# Altium schematic symbol library AMA4B_adapter_board.SCHLIB: 114 symbols (part 3 of 3)
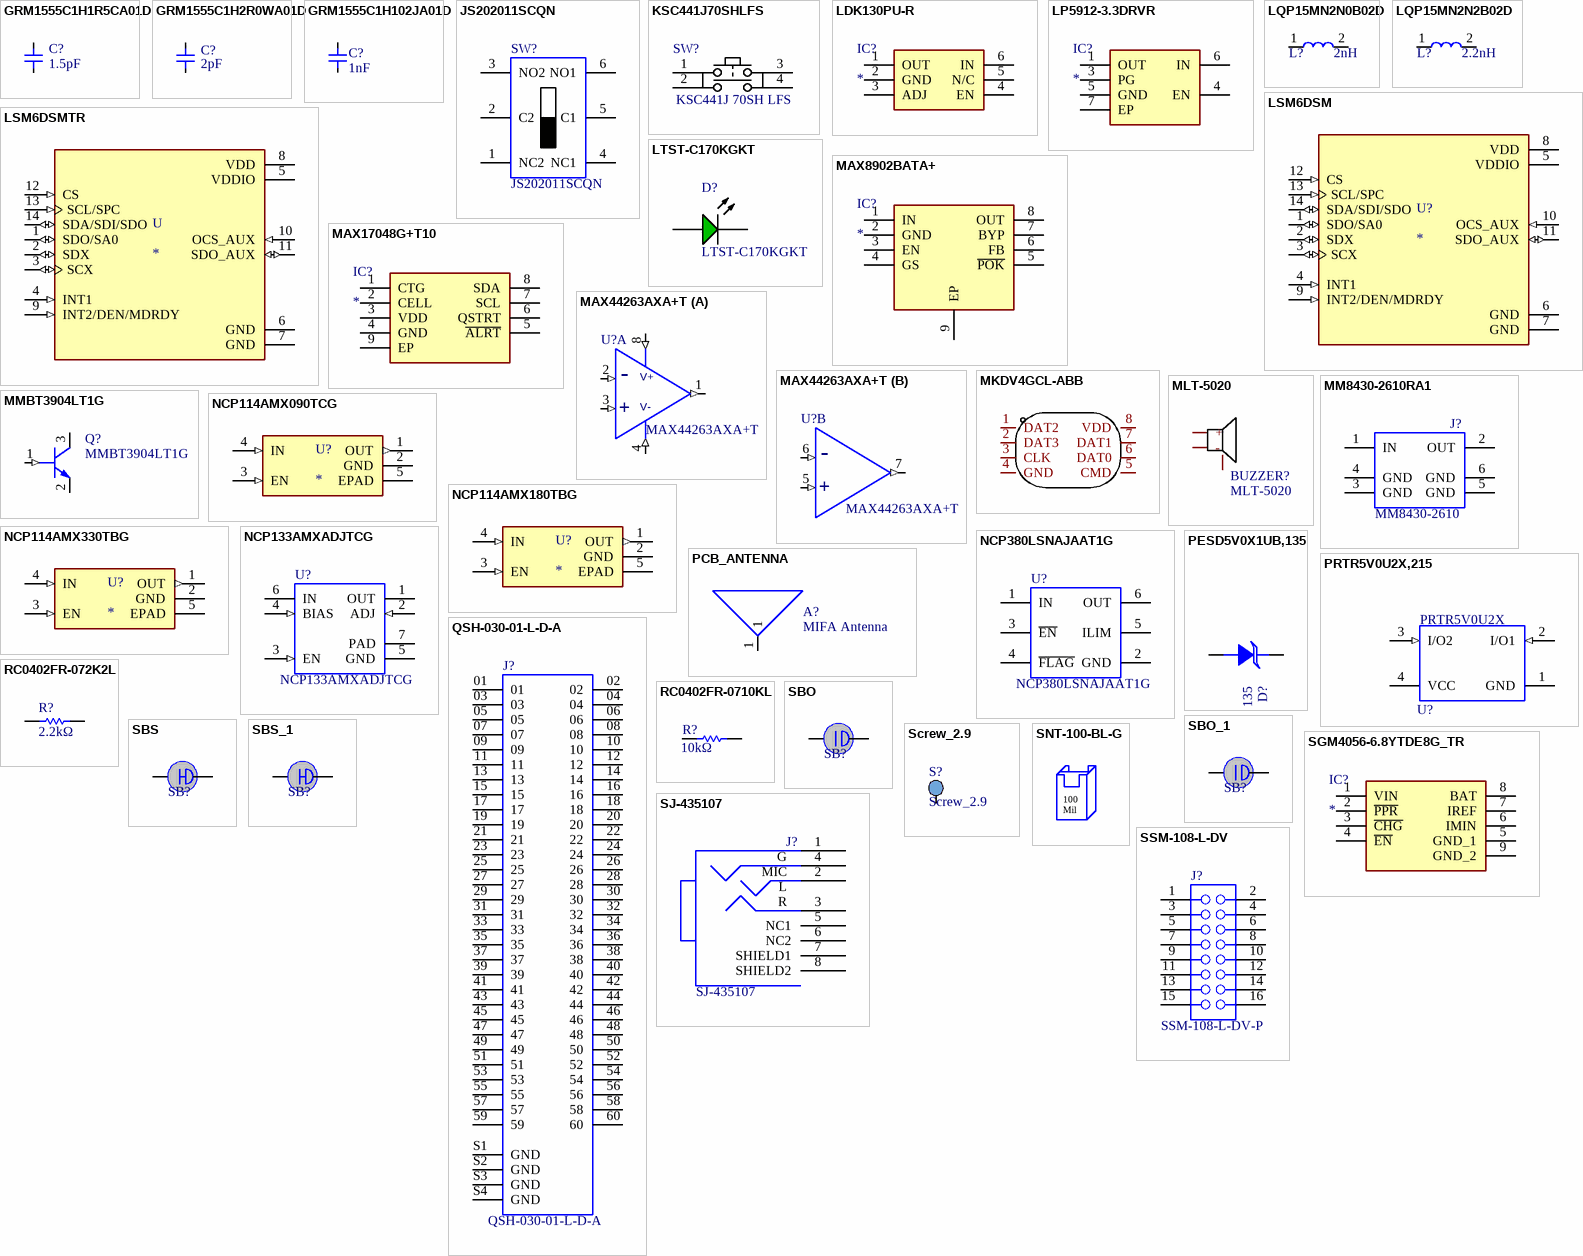
[diagram p5: symbols GRM1555C1H1R5CA01D to SSM-108-L-DV]

## MM8430-2610RA1
designator J?, comment MM8430-2610
None; Manufacturer: Murata; AMBIQ PN: MM8430-2610RA1; Connector Type: Socket; Impedance: 50R; Max Frequency: 6GHz; Polarity: Standard; Supplier 1: Arrow Electronics; Supplier Part Number 1: MM8430-2610RA1; Manufacturer Part Number: MM8430-2610RA1; RoHS: Yes; Category: RF / Coaxial Connectors; Stock 1: 2000; Pricing 1: 1000=0.24630, 2000=0.22530, 5000=0.21890, 10000=0.21150 (USD); Mount: Surface Mount; Case/Package: SMD/SMT; Contact Material: Copper Alloy; Contact Plating: Gold; Min Operating Temperature: -40°C; Max Operating Temperature: 85°C; Packaging: Tape and Reel; Orientation: Straight; Termination: Solder; Length: 3mm; ComponentLink1URL: https://datasheet.ciiva.com/642/o33e-642736.pdf?src-supplier=Digi-Key; ComponentLink1Description: https://datasheet.ciiva.com/642/o33e-642736.pdf?src-supplier=Digi-Key; Housing Color: Silver; Series: 8430; Depth: 3mm; Radiation Hardening: No; Package Quantity: 1; Lead Free: Lead Free; Insulation Material: Plastic; Fastening Type: Pull
footprint MM8430-2610
pins: 1 IN, 2 OUT, 3 GND (power), 4 GND (power), 5 GND (power), 6 GND (power)

## MMBT3904LT1G
designator Q?
None; Manufacturer: ON Semiconductor; Element Configuration: Single; Max Power Dissipation: 300mW; Polarity: NPN; Voltage Rating (DC): 40V; Current Rating: 200mA; Number of Elements: 1; Frequency: 300MHz; hFE Min: 100; Collector Base Voltage (VCBO): 60V; Emitter Base Voltage (VEBO): 6V; Collector Emitter Saturation Voltage: 300mV; Type: General Purpose; AMBIQ PN: MMBT3904LT1G; Supplier 1: RSComponents; Supplier Part Number 1: 5450343; Manufacturer Part Number: MMBT3904LT1G; RoHS: Yes; Category: BJTs; Stock 1: 150; Pricing 1: 50=0.12200, 100=0.09200, 250=0.09100, 500=0.09000, 1250=0.07100 (GBP); Case/Package: SOT-23-3; Number of Pins: 3; Contact Plating: Tin,Matte; Min Operating Temperature: -55°C; Max Operating Temperature: 150°C; Packaging: Tape and Reel; Package Quantity: 1; Series: -; Length: 2.9mm; Width: 1.3mm; Height: 0.94mm; Radiation Hardening: No; RoHS Compliant: Yes; REACH SVHC: No SVHC; Lead Free: Lead Free; ComponentLink1URL: https://datasheet.ciiva.com/4723/mmbt3904lt1-d-113169-4723050.pdf; ComponentLink1Description: https://datasheet.ciiva.com/4723/mmbt3904lt1-d-113169-4723050.pdf; Collector Emitter Voltage (VCEO): 40V; Max Collector Current: 200mA; Transition Frequency: 300MHz; Collector Emitter Breakdown Voltage: 40V; Max Breakdown Voltage: 40V; Power Dissipation: 300mW; Gain Bandwidth Product: 300MHz; Max Frequency: 300MHz; Collector-emitter Voltage-Max: 300mV
footprint SOT23-3N
pins: 1 BASE (in), 2 EMITTER, 3 COLLECTOR

## NCP114AMX090TCG
designator U?
Linear Voltage Regulator IC Positive Fixed 1 Output 300mA 4-UDFN _1.0x1.0_; MP: NCP114AMX330TBG; MF: ON Semiconductor; Availability: Unavailable; Package: UDFN-4 ON Semiconductor; Value: *; Price: None; SnapEDA_Link: https://www.snapeda.com/parts/NCP114AMX330TBG/ON%20Semiconductor/view-part/711351/?ref=snap
footprint REG_NCP114AMX330TBG
pins: 1 OUT (out), 2 GND (power), 3 EN (in), 4 IN (in), 5 EPAD

## NCP114AMX180TBG
designator U?
Linear Voltage Regulator IC Positive Fixed 1 Output 300mA 4-UDFN _1.0x1.0_; MP: NCP114AMX330TBG; MF: ON Semiconductor; Availability: Unavailable; Package: UDFN-4 ON Semiconductor; Value: *; Price: None; SnapEDA_Link: https://www.snapeda.com/parts/NCP114AMX330TBG/ON%20Semiconductor/view-part/711351/?ref=snap
footprint REG_NCP114AMX330TBG
pins: 1 OUT (out), 2 GND (power), 3 EN (in), 4 IN (in), 5 EPAD

## NCP114AMX330TBG
designator U?
Linear Voltage Regulator IC Positive Fixed 1 Output 300mA 4-UDFN _1.0x1.0_; MP: NCP114AMX330TBG; MF: ON Semiconductor; Availability: Unavailable; Package: UDFN-4 ON Semiconductor; Value: *; Price: None; SnapEDA_Link: https://www.snapeda.com/parts/NCP114AMX330TBG/ON%20Semiconductor/view-part/711351/?ref=snap
footprint REG_NCP114AMX330TBG
pins: 1 OUT (out), 2 GND (power), 3 EN (in), 4 IN (in), 5 EPAD

## NCP133AMXADJTCG
designator U?
None; Manufacturer: ON Semiconductor; Output Type: Adjustable; Number of Outputs: 1; Max Output Current: 500mA; Output Voltage: 3.6V; Max Input Voltage: 5.5V; Min Input Voltage: 800mV; Polarity: Positive; Accuracy: 0.5%; Dropout Voltage: 140mV; Min Current Limit: 550mA; Power Supply Rejection Ratio (PSRR): 70dB; AMBIQ PN: NCP133AMXADJTCG; Manufacturer Part Number: NCP133AMXADJTCG; Supplier 1: Arrow Electronics; Supplier Part Number 1: NCP133AMXADJTCG; RoHS: Yes; Category: Voltage Regulators - Linear; Stock 1: 50943; Pricing 1: 1=0.67860, 10=0.59180, 100=0.45310, 250=0.42120, 500=0.35830, 1000=0.28640, 3000=0.26440 (USD); Number of Pins: 6; Contact Plating: Tin,Matte; Min Operating Temperature: -40°C; Max Operating Temperature: 85°C; Package Quantity: 3000; Packaging: Tape and Reel; REACH SVHC: No SVHC; Lead Free: Lead Free; RoHS Compliant: Yes; ComponentLink1URL: https://datasheet.ciiva.com/46403/1863238-46403671.pdf?src-supplier=Element14; ComponentLink1Description: https://datasheet.ciiva.com/46403/1863238-46403671.pdf?src-supplier=Element14; Mount: Surface Mount; Length: 1.2mm; Width: 1.2mm; Height: 0.4mm; Output Current: 500mA; Min Output Voltage: 800mV; Reference Voltage: 800mV; Max Output Voltage: 3.6V; Number of Regulators: 1
footprint SON40P120X45_HS-7N
pins: 1 OUT (power) "Regulated Output Voltage pin", 2 ADJ (in) "Adjustable Regulator Feedback Input. Connect to output voltage resistor divider central node. If fixed variant, True No Connect, and not internally connected.", 3 EN (in) "Enable pin. Driving this pin high enables the regulator. Driving this pin low puts the regulator into shutdown mode.", 4 BIAS (in) "Bias voltage supply for internal control circuits. This pin is monitored by internal UVLO circuit.", 5 GND "Ground", 6 IN (power) "Input Voltage Supply pin", 7 PAD "Should be soldered to the ground plane for increased thermal performance."

## NCP380LSNAJAAT1G
designator U?
None; Manufacturer: ON Semiconductor; Interface: On/Off; Number of Outputs: 1; Max Output Current: 1A; Output Configuration: High Side; Max Power Dissipation: 350mW; Current Rating: 2.1A; On-State Resistance: 70mR; On-state Resistance-Max: 110MR; Operating Supply Voltage: 5.5V; Min Input Voltage: 2.5V; Number of Inputs: 2; Turn-On Delay Time: 4ms; Turn-Off Delay Time: 3ms; AMBIQ PN: NCP380LSNAJAAT1G; Manufacturer Part Number: NCP380LSNAJAAT1G; Supplier 1: Newark; Supplier Part Number 1: 42Y0754; RoHS: Yes; Category: USB Interface ICs; Stock 1: 1700; Pricing 1: 1=0.83000, 10=0.73100, 25=0.68600, 50=0.62300, 100=0.56000, 250=0.52000, 500=0.44300, 1000=0.35400 (USD); Number of Pins: 6; Min Operating Temperature: -40°C; Max Operating Temperature: 85°C; Package Quantity: 1; Packaging: Tape and Reel; Series: -; Mount: Surface Mount; Length: 3mm; Width: 1.5mm; Height: 1mm; Number of Switches: 1; Rated Current-Max: 2.1A; Max Input Voltage: 5.5V; Case/Package: TSOP; Radiation Hardening: No
footprint TSOP6_1P70X3P10_ONS
pins: 1 IN (power), 2 GND (power), 3 ~{EN}, 4 ~{FLAG} (oc), 5 ILIM, 6 OUT (power)

## PCB_ANTENNA
designator A?, comment MIFA Antenna  (no BOM)
None; AMBIQ PN: PCB_ANTENNA
footprint PCB_MIFA_ANTENNA
footprint AP3EVB_MIFA_ANTENNA
pins: 1

## PESD5V0X1UB,135
designator D?
None; Manufacturer: Nexperia; AMBIQ PN: PESD5V0X1UB,135; Supplier 1: RSComponents; Supplier Part Number 1: 1704867; Manufacturer Part Number: PESD5V0X1UB,135; RoHS: Yes; Category: ESD and Circuit Protection ICs; Stock 1: 1; Pricing 1: 10000=0.12700 (USD); RoHS Compliant: Yes; ComponentLink1URL: https://www.mouser.com/ds/2/302/PESD5V0X1UB-1151612.pdf?src-supplier=Mouser; ComponentLink1Description: https://www.mouser.com/ds/2/302/PESD5V0X1UB-1151612.pdf?src-supplier=Mouser
footprint SC79
pins: 1 C, 2 A

## PRTR5V0U2X,215
designator U?, comment PRTR5V0U2X
None; Manufacturer: Nexperia; AMBIQ PN: PRTR5V0U2X,215; Manufacturer Part Number: PRTR5V0U2X,215; Supplier 1: Arrow Electronics; Supplier Part Number 1: PRTR5V0U2X,215; RoHS: Yes; Category: ESD and Circuit Protection ICs; Stock 1: 234000; Pricing 1: 3000=0.18050, 6000=0.16890, 15000=0.15880 (USD); RoHS Compliant: Yes; ComponentLink1URL: http://www.farnell.com/datasheets/109718.pdf?src-supplier=Farnell; ComponentLink1Description: http://www.farnell.com/datasheets/109718.pdf?src-supplier=Farnell; ComponentLink2URL: https://assets.nexperia.com/documents/data-sheet/PRTR5V0U2X.pdf?src-supplier=Digi-Key; ComponentLink2Description: https://assets.nexperia.com/documents/data-sheet/PRTR5V0U2X.pdf?src-supplier=Digi-Key
footprint SOT143L
pins: 1 GND (power), 2 I/O1 (in), 3 I/O2 (in), 4 VCC

## QSH-030-01-L-D-A
designator J?
None; Manufacturer: Samtec; Connector Type: Receptacle; Number of Contacts: 60; Current Rating: 1A; Pitch: 0.5mm; Row Spacing: 3.81mm; Max Voltage Rating (AC): 125V; Mated Stacking Heights: 25mm; AMBIQ PN: QSH-030-01-L-D-A; Supplier 1: Arrow Electronics; Supplier Part Number 1: QSH-030-01-L-D-A; Manufacturer Part Number: QSH-030-01-L-D-A; RoHS: Yes; Category: Board to Board Connectors; Stock 1: 434; Pricing 1: 96=10.29850 (USD); Mount: Surface Mount; Contact Material: Bronze; Contact Plating: Gold; Housing Material: Polymer; Min Operating Temperature: -55°C; Max Operating Temperature: 125°C; Packaging: Tray; Gender: Receptacle; Orientation: Straight; Termination: Solder; Length: 21.27mm; REACH SVHC: No SVHC; RoHS Compliant: Yes; ComponentLink1URL: https://datasheet.ciiva.com/25618/0900766b8115a597-25618083.pdf?src-supplier=RSComponents; ComponentLink1Description: https://datasheet.ciiva.com/25618/0900766b8115a597-25618083.pdf?src-supplier=RSComponents; Housing Color: Black; Number of Rows: 2; Number of Positions: 60; Series: Q Strip® QSH; Depth: 7.49mm; Radiation Hardening: No; Lead Free: Lead Free; Voltage Rating: 125V
footprint SAMTEC_QSH-030-01-X-D-A
pins: 01, 02, 03, 04, 05, 06, 07, 08, 09, 10, 11, 12, 13, 14, 15, 16, 17, 18, 19, 20, 21, 22, 23, 24, 25, 26, 27, 28, 29, 30, 31, 32, 33, 34, 35, 36, 37, 38, 39, 40, 41, 42, 43, 44, 45, 46, 47, 48, 49, 50, 51, 52, 53, 54, 55, 56, 57, 58, 59, 60, S1 GND (power), S2 GND (power), S3 GND (power), S4 GND (power)

## RC0402FR-072K2L
designator R?, comment 2.2kΩ
Res Thick Film 1.0 x 0.5 mm 2.2K Ohm 1% 0.063W(1/16W) 100ppm/ C Molded SMD Paper T/R; Manufacturer: Yageo; AMBIQ PN: RC0402FR-072K2L; Resistance: 2.2kR; Power Rating: 63mW; Voltage Rating: 50V; Temperature Coefficient: 100ppm/°C; Supplier 1: Arrow Electronics; Supplier Part Number 1: RC0402FR-072K2L; Manufacturer Part Number: RC0402FR-072K2L; RoHS: Yes; Category: Chip SMD Resistors; Stock 1: 3540000; Pricing 1: 10000=0.00090 (USD); Case/Package: 0402; Weight: 2.3E-05oz; Case Code (Metric): 1005; Case Code (Imperial): 0402; Size Code: 0402; Min Operating Temperature: -55°C; Max Operating Temperature: 155°C; Packaging: Tape and Reel; Resistor Type: Thick Film; Number of Terminations: 2; Termination: SMD/SMT; Max Power Dissipation: 63mW; Features: Moisture Resistant; Series: RC; Technology: THICK FILM; Construction: Rectangular; Length: 1mm; Width: 0.5mm; Height: 0.35mm; Depth: 0.5mm; REACH SVHC: Unknown; Military Standard: Not; Lead Free: Lead Free; RoHS Compliant: Yes; ComponentLink1URL: https://datasheet.ciiva.com/11808/0900766b80c66297-11808786.pdf?src-supplier=RSComponents; ComponentLink1Description: https://datasheet.ciiva.com/11808/0900766b80c66297-11808786.pdf?src-supplier=RSComponents; ComponentLink2URL: https://datasheet.ciiva.com/7983/1018594-7983515.pdf?src-supplier=Element14; ComponentLink2Description: https://datasheet.ciiva.com/7983/1018594-7983515.pdf?src-supplier=Element14; ComponentLink3URL: https://datasheet.ciiva.com/46383/1018594-46383563.pdf?src-supplier=Element14; Tolerance: 1%; Resistance Tolerance: 1%
footprint IPC_A
footprint IPC_B
footprint IPC_C
footprint MFG
pins: 1, 2
1 alternate drawing of the same symbol

## RC0402FR-0710KL
designator R?, comment 10kΩ
Surface Mount Thick Film Resistor, Rc Series, 10 Kohm, 62.5 Mw, - 1%, 50 V, 0402 [1005 Metric]; Manufacturer: Yageo; AMBIQ PN: RC0402FR-0710KL; Resistance: 10kR; Power Rating: 62.5mW; Voltage Rating: 50V; Max Power Dissipation: 63mW; Temperature Coefficient: 100ppm/°C; Supplier 1: Arrow Electronics; Supplier Part Number 1: RC0402FR-0710KL; Manufacturer Part Number: RC0402FR-0710KL; RoHS: Yes; Category: Chip SMD Resistors; Stock 1: 7776428; Pricing 1: 10000=0.00210 (USD); Case/Package: 0402; Case Code (Metric): 1005; Case Code (Imperial): 0402; Min Operating Temperature: -55°C; Max Operating Temperature: 155°C; Packaging: Tape and Reel; Resistor Type: Thick Film; Number of Terminations: 2; Termination: SMD/SMT; Voltage Rating (DC): 50V; Features: Moisture Resistant; Series: RC; Construction: Rectangular; Length: 1mm; Width: 0.5mm; Height: 0.32mm; Depth: 0.5mm; REACH SVHC: No SVHC; Military Standard: Not; Lead Free: Lead Free; RoHS Compliant: Yes; ComponentLink1URL: https://datasheet.ciiva.com/7660/38568-7660787.pdf?src-supplier=Element14; ComponentLink1Description: https://datasheet.ciiva.com/7660/38568-7660787.pdf?src-supplier=Element14; ComponentLink2URL: https://datasheet.ciiva.com/7849/1686128-7849814.pdf?src-supplier=Element14; ComponentLink2Description: https://datasheet.ciiva.com/7849/1686128-7849814.pdf?src-supplier=Element14; ComponentLink3URL: https://datasheet.ciiva.com/7983/1018594-7983486.pdf?src-supplier=Element14; Tolerance: 1%; Number of Pins: 2; Resistance Tolerance: 1%; Working Voltage: 50V; Lead Pitch: 0.2mm
footprint IPC_A
footprint IPC_B
footprint IPC_C
footprint MFG
pins: 1, 2
1 alternate drawing of the same symbol

## SBO
designator SB?  (value not drawn)  (no BOM)
None; AMBIQ PN: SBO
footprint SB39X18
pins: 1, 2

## SBO_1
designator SB?, comment Solderbridge  (value not drawn)  (no BOM)
None; AMBIQ PN: SBO
footprint SB39X18
pins: 1, 2

## SBS
designator SB?, comment Solder short  (value not drawn)  (net tie, no BOM)
None; AMBIQ PN: SBS
footprint SB39X18_SHORTED
pins: 1, 2

## SBS_1
designator SB?, comment SBS  (value not drawn)  (net tie, no BOM)
None; AMBIQ PN: SBS
footprint SB39X18_SHORTED
pins: 1, 2

## Screw_2.9
designator S?
footprint Screw_2.9
footprint HOLE-3.2MM_M
footprint HOLE-2.9MM
pins: 1

## SGM4056-6.8YTDE8G_TR
designator IC?
Integrated Circuit; Manufacturer_Name: SGMICRO; Manufacturer_Part_Number: SGM4056-10.5YTDE8G/TR; Datasheet Link: https://4donline.ihs.com/images/VipMasterIC/IC/SGML/SGML-S-A0002247971/SGML-S-A0002247971-1.pdf?hkey=EF798316E3902B6ED9A73243A3159BB0; Height: 0.8mm
footprint TDFN-8L_L2.0-W2.0-P0.50-BL-EP
pins: 1 VIN, 2 ~{PPR}, 3 ~{CHG}, 4 ~{EN}, 5 GND_1, 6 IMIN, 7 IREF, 8 BAT, 9 GND_2

## SJ-435107
designator J?
None; Manufacturer: CUI; Connector Type: Jack; Gender: Female; Number of Ports: 1; Current Rating: 1A; Shielding: Shielded; Voltage Rating: 12V; Body Material: Brass; Body Color: Silver; Number of Conductors: 4; AMBIQ PN: SJ-435107; Supplier 1: Arrow Electronics; Supplier Part Number 1: SJ-435107; Manufacturer Part Number: SJ-435107; RoHS: Yes; Category: Audio / Video Cables; Mount: Through Hole; Contact Plating: Tin; Packaging: Bulk; Orientation: Horizontal; Termination: Solder; RoHS Compliant: Yes; ComponentLink1URL: https://www.cui.com/product/resource/digikeypdf/sj-435107.pdf?src-supplier=Digi-Key; ComponentLink1Description: https://www.cui.com/product/resource/digikeypdf/sj-435107.pdf?src-supplier=Digi-Key; Series: SJ; Color: Black; Lead Free: Lead Free
footprint JACK_STEREO_RA_SJ-435107
pins: 1 G, 2 L, 3 R, 4 MIC, 5 NC1, 6 NC2, 7 SHIELD1, 8 SHIELD2

## SNT-100-BL-G
designator SH?, comment Shunt 100mil  (value not drawn)  (graphical)
None; Manufacturer: Samtec; AMBIQ PN: SNT-100-BL-G; Contact Resistance: 5mR; Max Current Rating: 2.5A; Number of Contacts: 2; Pitch: 2.54mm; Supplier 1: Arrow Electronics; Supplier Part Number 1: SNT-100-BL-G; Manufacturer Part Number: SNT-100-BL-G; RoHS: Yes; Category: Connectors; Stock 1: 629; Pricing 1: 1=0.36000, 50=0.28000, 100=0.22000 (USD); Package Quantity: 1; Series: SNT; ComponentLink1URL: https://datasheet.ciiva.com/768/snt-mkt-768071.pdf?src-supplier=Digi-Key; ComponentLink1Description: https://datasheet.ciiva.com/768/snt-mkt-768071.pdf?src-supplier=Digi-Key; Contact Material: Bronze; Contact Plating: Gold; Color: Blue; Packaging: Bulk; Orientation: Straight; Length: 50.8mm; Height: 0.24inch; Depth: 2.54mm; RoHS Compliant: Yes; REACH SVHC: No SVHC; Housing Material: Polyester; Min Operating Temperature: -40°C; Max Operating Temperature: 90°C; Radiation Hardening: No; Housing Color: Blue; Number of Rows: 1
text: 100 / Mil

## SSM-108-L-DV
designator J?, comment SSM-108-L-DV-P
None; Manufacturer: Samtec; Connector Type: Receptacle; Number of Contacts: 16; Pitch: 2.54mm; Max Current Rating: 6.9A; Row Spacing: 0.1inch; Max Voltage Rating (AC): 475V; Contact Resistance: 10mR; AMBIQ PN: SSM-108-L-DV; Supplier 1: Newark; Supplier Part Number 1: 11P7889; Manufacturer Part Number: SSM-108-L-DV; RoHS: Yes; Category: Headers and Wire Housings; Stock 1: 2149; Pricing 1: 1=6.04000, 50=5.23000, 100=4.43000, 500=3.14000, 1000=2.38000 (USD); Contact Material: Bronze; Contact Plating: Gold; Housing Material: Polymer; Min Operating Temperature: -55°C; Max Operating Temperature: 125°C; Packaging: Bulk; Gender: Receptacle; Orientation: Vertical; Termination: Solder; Length: 20.32mm; REACH SVHC: No SVHC; RoHS Compliant: Yes; ComponentLink1URL: https://datasheet.ciiva.com/746/ssm-1xx-xxx-dv-xx-xx-x-xx-mkt-746637.pdf?src-supplier=Digi-Key; ComponentLink1Description: https://datasheet.ciiva.com/746/ssm-1xx-xxx-dv-xx-xx-x-xx-mkt-746637.pdf?src-supplier=Digi-Key; Housing Color: Black; Number of Rows: 2; Number of Positions: 16; Series: SSM; Depth: 5.08mm; Radiation Hardening: No; Color: Black; Contact Type: Female Socket; Lead Free: Lead Free; Width: 5.08mm
footprint SSM-108-X-DV-P
footprint SSM-108-X-DV-CUSTOM
pins: 1 A1, 2 B1, 3 A2, 4 B2, 5 A3, 6 B3, 7 A4, 8 B4, 9 A5, 10 B5, 11 A6, 12 B6, 13 A7, 14 B7, 15 A8, 16 B8

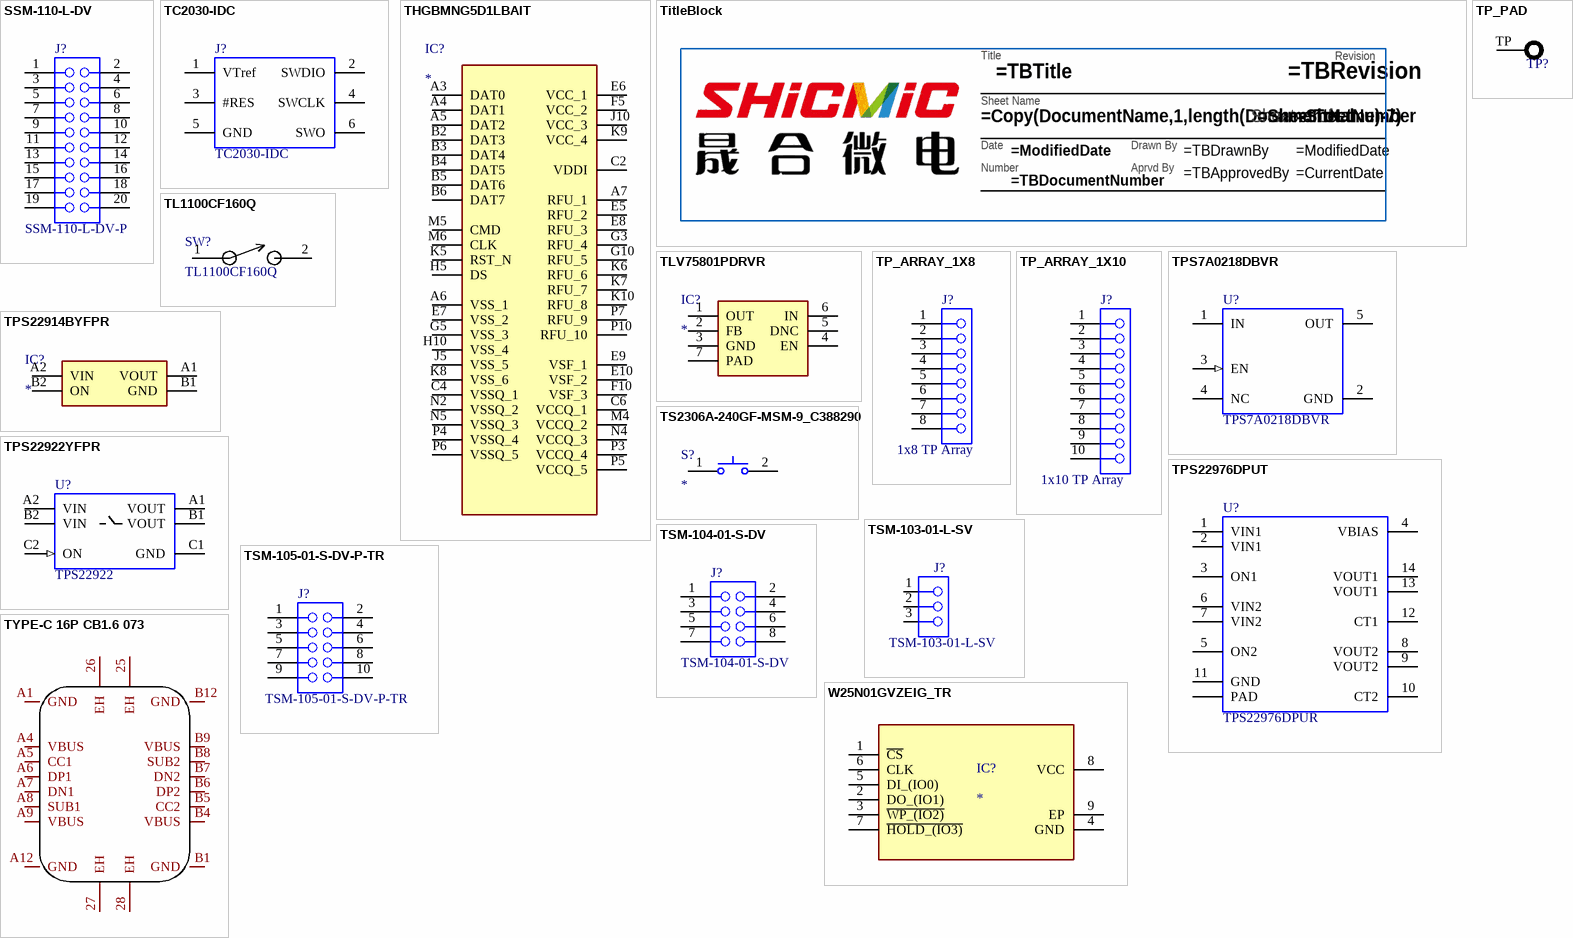
[diagram p3: symbols SSM-110-L-DV to W25N01GVZEIG_TR]

## SSM-110-L-DV
designator J?, comment SSM-110-L-DV-P
None; Manufacturer: Samtec; Connector Type: Receptacle; Number of Contacts: 20; Current Rating: 6.9A; Pitch: 2.54mm; Row Spacing: 0.1inch; Voltage Rating (AC): 475V; Contact Resistance: 10mR; AMBIQ PN: SSM-110-L-DV; Supplier 1: Arrow Electronics; Supplier Part Number 1: SSM-110-L-DV; Manufacturer Part Number: SSM-110-L-DV; RoHS: Yes; Category: Headers and Wire Housings; Stock 1: 117; Pricing 1: 22=4.30780, 66=3.51400, 110=2.98480 (USD); Contact Material: Bronze; Contact Plating: Gold; Housing Material: Polymer; Min Operating Temperature: -55°C; Max Operating Temperature: 125°C; Packaging: Bulk; Gender: Receptacle; Orientation: Vertical; Termination: Solder; Length: 25.4mm; REACH SVHC: No SVHC; RoHS Compliant: Yes; ComponentLink1URL: https://datasheet.ciiva.com/25617/0900766b81159474-25617983.pdf?src-supplier=RSComponents; ComponentLink1Description: https://datasheet.ciiva.com/25617/0900766b81159474-25617983.pdf?src-supplier=RSComponents; Housing Color: Black; Number of Rows: 2; Number of Positions: 20; Series: SSM; Depth: 5.08mm; Radiation Hardening: No; Color: Black; Contact Type: Female Socket; Max Current Rating: 6.9A; Lead Free: Lead Free; Max Voltage Rating (AC): 475V; Voltage Rating: 475V
footprint SSM-110-X-DV-P
footprint SSM-110-X-DV-CUSTOM
pins: 1 A1, 2 B1, 3 A2, 4 B2, 5 A3, 6 B3, 7 A4, 8 B4, 9 A5, 10 B5, 11 A6, 12 B6, 13 A7, 14 B7, 15 A8, 16 B8, 17 A9, 18 B9, 19 A10, 20 B10

## TC2030-IDC
designator J?  (no BOM)
None; Manufacturer: Tag-Connect; AMBIQ PN: TC2030-IDC; Supplier 1: Digi-Key; Supplier Part Number 1: TC2030-IDC-ND; Manufacturer Part Number: TC2030-IDC; RoHS: Yes; Category: Connectors; Stock 1: 778; Pricing 1: 1=42.44000 (USD); ComponentLink1URL: http://www.tag-connect.com/Materials/TC2030-IDC.pdf?src-supplier=Digi-Key; ComponentLink1Description: http://www.tag-connect.com/Materials/TC2030-IDC.pdf?src-supplier=Digi-Key; Package Quantity: 1
footprint TC2030-IDC
footprint TC2030-IDC-NL
pins: 1 VTref (power) "Vref", 2 SWDIO, 3 #RES, 4 SWCLK, 5 GND (power) "Ground", 6 SWO

## THGBMNG5D1LBAIT
designator IC?
Integrated Circuit; Manufacturer_Name: Toshiba; Manufacturer_Part_Number: THGBMNG5D1LBAIT; Datasheet Link: http://www.mouser.com/datasheet/2/877/Toshiba_FAB_eMMC-1511507.pdf; Height: 0.8mm; Mouser Part Number: N/A; Mouser Price/Stock: https://www.mouser.co.uk/ProductDetail/Toshiba/THGBMNG5D1LBAIT?qs=Znm5pLBrcAK%2FqO1c67f5bw%3D%3D
footprint BGA153C50P14X14_1100X1000X80
pins: A3 DAT0, A4 DAT1, A5 DAT2, A6 VSS_1, A7 RFU_1, B2 DAT3, B3 DAT4, B4 DAT5, B5 DAT6, B6 DAT7, C2 VDDI, C4 VSSQ_1, C6 VCCQ_1, E5 RFU_2, E6 VCC_1, E7 VSS_2, E8 RFU_3, E9 VSF_1, E10 VSF_2, F5 VCC_2, F10 VSF_3, G3 RFU_4, G5 VSS_3, G10 RFU_5, H5 DS, H10 VSS_4, J5 VSS_5, J10 VCC_3, K5 RST_N, K6 RFU_6, K7 RFU_7, K8 VSS_6, K9 VCC_4, K10 RFU_8, M4 VCCQ_2, M5 CMD, M6 CLK, N2 VSSQ_2, N4 VCCQ_3, N5 VSSQ_3, P3 VCCQ_4, P4 VSSQ_4, P5 VCCQ_5, P6 VSSQ_5, P7 RFU_9, P10 RFU_10

## TitleBlock
designator ??  (value not drawn)  (graphical)
Title block for Ambiq Schematics. Please have the following parameters entered in Project>Project Options>Parameters: / TBTitle / TBDocumentNumber / TBRevision / TBDrawnBy / TBApprovedBy; AMBIQ PN: TitleBlock
text: Revision; Title; Sheet Name; Sheet; of; Date; Drawn By; Number; Aprvd By

## TL1100CF160Q
designator SW?
Button; Mfr_Name: NKK Switches; Manufacturer_Part_Number: JB15KH-6C; Copyright: Copyright (C) 2021 Ultra Librarian. All rights reserved.; RefDes: RefDes; Type: DEV
footprint TL1100CF160Q
pins: 1, 2

## TLV75801PDRVR
designator IC?
Integrated Circuit; Manufacturer_Name: Texas Instruments; Manufacturer_Part_Number: TLV75801PDRVR; Datasheet Link: http://www.ti.com/lit/gpn/TLV758P; Height: 0.8mm; Mouser Part Number: 595-TLV75801PDRVR; Mouser Price/Stock: https://www.mouser.co.uk/ProductDetail/Texas-Instruments/TLV75801PDRVR?qs=PqoDHHvF64%2FZ6DyDKfEo8A%3D%3D; Arrow Part Number: TLV75801PDRVR; Arrow Price/Stock: https://www.arrow.com/en/products/tlv75801pdrvr/texas-instruments?region=europe
footprint SON65P200X200X80-7N
pins: 1 OUT, 2 FB, 3 GND, 4 EN, 5 DNC, 6 IN, 7 PAD

## TP_ARRAY_1X8
designator J?, comment 1x8 TP Array  (no BOM)
None; AMBIQ PN: TP_ARRAY_1X8
footprint TP35H59P_1X8
pins: 1, 2, 3, 4, 5, 6, 7, 8

## TP_ARRAY_1X10
designator J?, comment 1x10 TP Array  (no BOM)
None; AMBIQ PN: TP_ARRAY_1X10
footprint TP35H59P_1X10
pins: 1, 2, 3, 4, 5, 6, 7, 8, 9, 10

## TP_PAD
designator TP?, comment PAD  (value not drawn)  (no BOM)
None; AMBIQ PN: TP_PAD
footprint TPPAD_0.5mm
footprint TPPAD_1.5mm
footprint TPPAD_1.0mm (A 1.5mm Copper Pad Testpoint)
pins: TP

## TPS7A0218DBVR
designator U?
None; Manufacturer: Texas Instruments; AMBIQ PN: TPS7A0218DBVR; Manufacturer Part Number: TPS7A0218DBVR; Supplier 1: Mouser; Supplier Part Number 1: 595-TPS7A0218DBVR; RoHS: No; Category: Voltage Regulators - Linear; Stock 1: 2935; Pricing 1: 1=1.58000, 10=1.42000, 25=1.35000, 50=1.35000, 100=1.11000, 250=1.04000, 500=0.91300, 1000=0.72100, 3000=0.69600, 10000=0.69600
footprint SOT95P280X145-5N
pins: 1 IN (power), 2 GND (power), 3 EN (in), 4 NC, 5 OUT (power)

## TPS22914BYFPR
designator IC?
Integrated Circuit; Manufacturer_Name: Texas Instruments; Manufacturer_Part_Number: TPS22914BYFPR; Datasheet Link: http://www.ti.com/lit/gpn/tps22914; Height: 0.5mm; Mouser Part Number: 595-TPS22914BYFPR; Mouser Price/Stock: https://www.mouser.co.uk/ProductDetail/Texas-Instruments/TPS22914BYFPR?qs=1MXlzafEN3%2Fs%2F8ixf9s9cA%3D%3D; Arrow Part Number: TPS22914BYFPR; Arrow Price/Stock: https://www.arrow.com/en/products/tps22914byfpr/texas-instruments?region=nac
footprint BGA4C40P2X2_75X75X50
pins: A1 VOUT, A2 VIN, B1 GND, B2 ON

## TPS22922YFPR
designator U?, comment TPS22922
None; Manufacturer: Texas Instruments; AMBIQ PN: TPS22922YFPR; Interface: On/Off; Nominal Supply Current: 120nA; Number of Outputs: 1; Max Output Current: 2A; Output Configuration: High Side; Max Power Dissipation: 645mW; On-State Resistance: 45mR; Operating Supply Voltage: 3.6V; Min Input Voltage: 900mV; Quiescent Current: 200nA; Turn-On Delay Time: 45us; Turn-Off Delay Time: 139us; Manufacturer Part Number: TPS22922YFPR; Supplier 1: Arrow Electronics; Supplier Part Number 1: TPS22922YFPR; RoHS: Yes; Category: Hot Swap Controllers; Stock 1: 2092; Pricing 1: 1=0.96850, 10=0.86300, 25=0.81190, 100=0.66430, 250=0.61530, 500=0.53900, 1000=0.42280 (USD); Number of Pins: 6; Min Operating Temperature: -40°C; Max Operating Temperature: 85°C; Package Quantity: 3000; Packaging: Tape and Reel; Supply Current: 120nA; Series: TPS22922; Lead Free: Lead Free; RoHS Compliant: Yes; ComponentLink1URL: https://datasheet.ciiva.com/15103/getdatasheetpartid-215983-15103996.pdf?src-supplier=Verical; ComponentLink1Description: https://datasheet.ciiva.com/15103/getdatasheetpartid-215983-15103996.pdf?src-supplier=Verical; ComponentLink2URL: https://datasheet.ciiva.com/1962/tps22921-1962551.pdf?src-supplier=Digi-Key; ComponentLink2Description: https://datasheet.ciiva.com/1962/tps22921-1962551.pdf?src-supplier=Digi-Key; Radiation Hardening: No; Output Current: 2A; Power Dissipation: 645mW; Number of Channels: 1; Max Input Voltage: 3.6V; ComponentLink3URL: https://datasheet.ciiva.com/1962/tps22921-1962550.; ComponentLink3Description: https://datasheet.ciiva.com/1962/tps22921-1962550.; ComponentLink4URL: https://datasheet.ciiva.com/1962/tps22921-1962552.; ComponentLink4Description: https://datasheet.ciiva.com/1962/tps22921-1962552.; ComponentLink5URL: https://datasheet.ciiva.com/3233/tps22922b-3233573; ComponentLink5Description: https://datasheet.ciiva.com/3233/tps22922b-3233573; Halogen Free: Halogen Free; ComponentLink6URL: https://datasheet.ciiva.com/3234/ncp380-d-3234430.; ComponentLink6Description: https://datasheet.ciiva.com/3234/ncp380-d-3234430.; ComponentLink7URL: https://datasheet.ciiva.com/1939/ncp380-d-1939781.; ComponentLink7Description: https://datasheet.ciiva.com/1939/ncp380-d-1939781.; ComponentLink8URL: https://datasheet.ciiva.com/1939/ncp380-d-1939782.; ComponentLink8Description: https://datasheet.ciiva.com/1939/ncp380-d-1939782.; ComponentLink9URL: https://datasheet.ciiva.com/1939/ncp380-d-1939783.; ComponentLink9Description: https://datasheet.ciiva.com/1939/ncp380-d-1939783.; Reach SVHC Compliant: Yes; ComponentLink10URL: https://datasheet.ciiva.com/16468/ncp380-d-1646871; ComponentLink10Description: https://datasheet.ciiva.com/16468/ncp380-d-1646871
footprint BGA6C50P2X3_90X140X55
pins: A1 VOUT (power) "Switch output", A2 VIN (power) "Switch input. Use a bypass capacitor to ground (ceramic)", B1 VOUT (power) "Switch output", B2 VIN (power) "Switch input. Use a bypass capacitor to ground (ceramic)", C1 GND "Ground", C2 ON (in) "Switch control input, active high. Do not leave floating"

## TPS22976DPUT
designator U?, comment TPS22976DPUR
None; Manufacturer: Texas Instruments; AMBIQ PN: TPS22976DPUT; Max Supply Voltage: 6V; Min Supply Voltage: 2.3V; Interface: On/Off; Output Type: Adjustable; Number of Outputs: 2; Max Output Current: 6A; Fault Protection: Over Temperature; Output Configuration: High Side; Output Current: 1A; Output Voltage: 5V; Quiescent Current: 220uA; Polarity: Positive; Accuracy: 0.5%; Dropout Voltage: 250mV; Input Bias Current: 120uA; Min Output Voltage: 800mV; Reference Voltage: 410mV; Manufacturer Part Number: TPS22976DPUT; Supplier 1: Arrow Electronics; Supplier Part Number 1: TPS22976DPUT; RoHS: Yes; Category: Power Management ICs; Stock 1: 250; Pricing 1: 1=0.70530, 10=0.67280, 25=0.64030, 100=0.60770, 250=0.57510 (USD); Number of Pins: 14; Min Operating Temperature: -40°C; Max Operating Temperature: 105°C; Package Quantity: 4000; Packaging: Tape and Reel; REACH SVHC: No SVHC; Lead Free: Lead Free; RoHS Compliant: Yes; ComponentLink1URL: http://www.ti.com/general/docs/suppproductinfo.tsp?distId=10&amp;gotoUrl=http%3A%2F%2Fwww.ti.com%2Flit%2Fgpn%2Ftps22976&src-sup; ComponentLink1Description: http://www.ti.com/general/docs/suppproductinfo.tsp?distId=10&amp;gotoUrl=http%3A%2F%2Fwww.ti.com%2Flit%2Fgpn%2Ftps22976&src-sup; ComponentLink2URL: https://datasheet.ciiva.com/41458/001085984-da-01-en-ic-reg-ld-mcp1826t-adje-dc-sot-223-5-mcp-41458757.pdf?src-supplier=Conrad; ComponentLink2Description: https://datasheet.ciiva.com/41458/001085984-da-01-en-ic-reg-ld-mcp1826t-adje-dc-sot-223-5-mcp-41458757.pdf?src-supplier=Conrad; Length: 0.257inch; Width: 0.14inch; Height: 0.065inch; Radiation Hardening: No; Number of Channels: 2; Max Input Voltage: 6V; Min Input Voltage: 2.3V; Output Voltage Accuracy: 0.5%; Max Output Voltage: 5V; Termination: SMD/SMT; Halogen Free: Halogen Free
footprint R-PWSON50P300x200-N14
pins: 1 VIN1, 2 VIN1, 3 ON1, 4 VBIAS, 5 ON2, 6 VIN2, 7 VIN2, 8 VOUT2, 9 VOUT2, 10 CT2, 11 GND, 12 CT1, 13 VOUT1, 14 VOUT1, PAD

## TS2306A-240GF-MSM-9_C388290
designator S?
Switch (2-Pin Push); Manufacturer_Name: Shou Han; Manufacturer_Part_Number: TS2306A-240GF-MSM-9_C388290; Datasheet Link: https://datasheet.lcsc.com/szlcsc/1904241742_SHOU-HAN-TS2306A-240gf-MSM-9_C388290.pdf; Height: 1mm
footprint TS2306A240GFMSM9_C388290
pins: 1 NO, 2 COM

## TSM-103-01-L-SV
designator J?
None; Manufacturer: Samtec; Connector Type: Male Pin; Number of Contacts: 3; Gender: Male; Current Rating: 7A; Pitch: 2.54mm; Max Voltage Rating (AC): 475V; AMBIQ PN: TSM-103-01-L-SV; Supplier 1: Arrow Electronics; Supplier Part Number 1: TSM-103-01-L-SV; Manufacturer Part Number: TSM-103-01-L-SV; RoHS: Yes; Category: Headers and Wire Housings; Stock 1: 365; Pricing 1: 1=0.58000, 50=0.45000, 100=0.37000 (USD); Mount: Surface Mount; Contact Material: Bronze; Contact Plating: Gold; Housing Material: Polymer; Min Operating Temperature: -55°C; Max Operating Temperature: 125°C; Packaging: Bulk; Orientation: Straight; Termination: Solder; Length: 7.62mm; REACH SVHC: No SVHC; ComponentLink1URL: https://datasheet.ciiva.com/739/tsm-1xx-xx-xxx-sv-xx-xxx-xx-mkt-739582.pdf?src-supplier=Digi-Key; ComponentLink1Description: https://datasheet.ciiva.com/739/tsm-1xx-xx-xxx-sv-xx-xxx-xx-mkt-739582.pdf?src-supplier=Digi-Key; Housing Color: Black; Number of Rows: 1; Number of Positions: 3; Series: TSM; Depth: 2.54mm; Radiation Hardening: No; Color: Black; Contact Type: Male Pin; Package Quantity: 1; Max Current Rating: 7A; Contact Mating Length: 0.23inch; Lead Free: Lead Free; Voltage Rating: 475V
footprint TSM-103-01-L-SV
pins: 1, 2, 3

## TSM-104-01-S-DV
designator J?
None; Manufacturer: Samtec; Connector Type: Header; Number of Contacts: 8; Gender: Male; Pitch: 2.54mm; Max Current Rating: 7A; Row Spacing: 0.1inch; Max Voltage Rating (AC): 475V; AMBIQ PN: TSM-104-01-S-DV; Supplier 1: Arrow Electronics; Supplier Part Number 1: TSM-104-01-S-DV; Manufacturer Part Number: TSM-104-01-S-DV; RoHS: Yes; Category: Headers and Wire Housings; Stock 1: 21; Pricing 1: 1=1.87000, 50=1.52000, 100=1.29000 (USD); Contact Material: Bronze; Contact Plating: Gold; Housing Material: Polymer; Insulation Color: Black; Min Operating Temperature: -55°C; Max Operating Temperature: 125°C; Packaging: Rail/Tube; Orientation: Vertical; Termination: Solder; Length: 10.16mm; REACH SVHC: No SVHC; Flammability Rating: UL94 V-0; RoHS Compliant: Yes; ComponentLink1URL: https://datasheet.ciiva.com/19461/2027522-19461911.pdf?src-supplier=Jameco; ComponentLink1Description: https://datasheet.ciiva.com/19461/2027522-19461911.pdf?src-supplier=Jameco; Housing Color: Black; Number of Rows: 2; Number of Positions: 8; Series: TSM; Depth: 5.08mm; Radiation Hardening: No; Color: Black; Contact Type: Male Pin; Package Quantity: 1; Contact Mating Length: 0.23inch; Lead Free: Lead Free; Insulation Material: Polymer; Fastening Type: Pull; Height: 9.65mm; Contact Shape: Square; Contact Finish - Mating: GOLD
footprint TSM-104-XX-XXX-DV
footprint TSM-104-XX-XXX-DV-CUSTOM
pins: 1 A1, 2 B1, 3 A2, 4 B2, 5 A3, 6 B3, 7 A4, 8 B4

## TSM-105-01-S-DV-P-TR
designator J?, comment AMBIQ PN: TSM-105-01-S-DV-P-TR  (hidden comment: TSM-105-01-X-DV)
None; Manufacturer: Samtec; Connector Type: Male Pin; Number of Contacts: 10; Gender: Male; Pitch: 2.54mm; Max Current Rating: 7A; Row Spacing: 0.1inch; Max Voltage Rating (AC): 475V; Supplier 1: Arrow Electronics; Supplier Part Number 1: TSM-105-01-S-DV-P-TR; Manufacturer Part Number: TSM-105-01-S-DV-P-TR; RoHS: Yes; Category: Headers and Wire Housings; Mount: Surface Mount; Contact Material: Bronze; Contact Plating: Gold; Housing Material: Polymer; Min Operating Temperature: -55°C; Max Operating Temperature: 125°C; Packaging: Tape and Reel; Orientation: Straight; Termination: Solder; Length: 12.7mm; REACH SVHC: No SVHC; RoHS Compliant: Yes; ComponentLink1URL: https://datasheet.ciiva.com/739/tsm-1xx-xx-xxx-xx-x-xxx-x-mkt-739649.pdf?src-supplier=Digi-Key; ComponentLink1Description: https://datasheet.ciiva.com/739/tsm-1xx-xx-xxx-xx-x-xxx-x-mkt-739649.pdf?src-supplier=Digi-Key; Housing Color: Black; Number of Rows: 2; Number of Positions: 10; Series: TSM; Depth: 5.08mm; Radiation Hardening: No; Color: Black; Contact Type: Male Pin; Package Quantity: 150; Contact Mating Length: 0.23inch; Lead Free: Lead Free
footprint SMTC-TSM-105-01-X-DV
pins: 1 A1, 2 B1, 3 A2, 4 B2, 5 A3, 6 B3, 7 A4, 8 B4, 9 A5, 10 B5

## TYPE-C 16P CB1.6 073
designator USB??  (value not drawn)
Manufacturer: SHOU HAN(首韩); Add into BOM: yes; Gender: 母; Number of Ports: 1; Current Rating - Power (Max): 3A; Name: TYPE-C 16P CB1.6 073; Symbol: TYPE-C 16P CB1.6 073; Device: TYPE-C 16P CB1.6 073; LCSC Part Name: Type-C 母 沉板; Supplier Part: C2906290; Manufacturer Part: TYPE-C 16P CB1.6 073; Supplier Footprint: SMD; JLCPCB Part Class: Extended Part; Datasheet: https://atta.szlcsc.com/upload/public/pdf/source/20211021/35D048B933FA988260DD32545575C1A5.pdf; Supplier: LCSC; Convert to PCB: yes; Connector Type: Type-C; Standard: -; Number of Contacts: 16P; Mounting Style: 沉板; Operating Temperature Range: -25℃~+85℃
footprint USB-C-SMD_SHOU_TYPE-C-16P-CB1.6
pins: 25 EH, 26 EH, 27 EH, 28 EH, A1 GND, A4 VBUS, A5 CC1, A6 DP1, A7 DN1, A8 SUB1, A9 VBUS, A12 GND, B1 GND, B4 VBUS, B5 CC2, B6 DP2, B7 DN2, B8 SUB2, B9 VBUS, B12 GND

## W25N01GVZEIG_TR
designator IC?
Integrated Circuit; Manufacturer_Name: Winbond; Manufacturer_Part_Number: W25N01GVZEIG TR; Datasheet Link: https://www.winbond.com/resource-files/w25n01gv revg 032116.pdf; Height: 0.8mm; Mouser Part Number: 454-W25N01GVZEIGTR; Mouser Price/Stock: https://www.mouser.co.uk/ProductDetail/Winbond/W25N01GVZEIG-TR?qs=qSfuJ%252Bfl%2Fd6niBi0Qz1MPg%3D%3D; Arrow Part Number: W25N01GVZEIG TR; Arrow Price/Stock: https://www.arrow.com/en/products/w25n01gvzeigtr/winbond-electronics?region=nac
footprint SON127P800X600X80-9N-D
pins: 1 ~{CS}, 2 DO_(IO1), 3 ~{WP_(IO2)}, 4 GND, 5 DI_(IO0), 6 CLK, 7 ~{HOLD_(IO3)}, 8 VCC, 9 EP